# EAGLE library part ADV7202 (library adv7202)
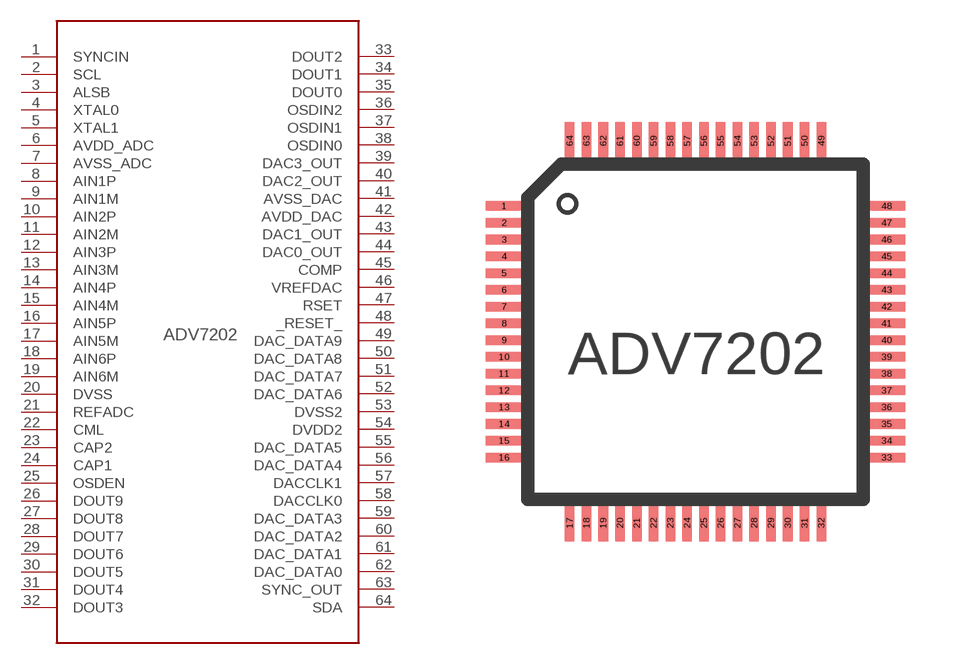
[diagram p0: symbol with the pads of LQFP64; footprint LQFP64]

Designator prefix -

## ADV7202LQFP64  [LQFP64]
1  SYNCIN
2  SCL
3  ALSB
4  XTAL0
5  XTAL1
6  AVDD_ADC
7  AVSS_ADC
8  AIN1P
9  AIN1M
10  AIN2P
11  AIN2M
12  AIN3P
13  AIN3M
14  AIN4P
15  AIN4M
16  AIN5P
17  AIN5M
18  AIN6P
19  AIN6M
20  DVSS
21  REFADC
22  CML
23  CAP2
24  CAP1
25  OSDEN
26  DOUT9
27  DOUT8
28  DOUT7
29  DOUT6
30  DOUT5
31  DOUT4
32  DOUT3
33  DOUT2
34  DOUT1
35  DOUT0
36  OSDIN2
37  OSDIN1
38  OSDIN0
39  DAC3_OUT
40  DAC2_OUT
41  AVSS_DAC
42  AVDD_DAC
43  DAC1_OUT
44  DAC0_OUT
45  COMP
46  VREFDAC
47  RSET
48  _RESET_
49  DAC_DATA9
50  DAC_DATA8
51  DAC_DATA7
52  DAC_DATA6
53  DVSS2
54  DVDD2
55  DAC_DATA5
56  DAC_DATA4
57  DACCLK1
58  DACCLK0
59  DAC_DATA3
60  DAC_DATA2
61  DAC_DATA1
62  DAC_DATA0
63  SYNC_OUT
64  SDA

## Footprint LQFP64 (pad centres in mm)
Plastic Low Profile Quad Flat Package
smd 1.1 x 0.285: 1 -5.7,3.75; 2 -5.7,3.25; 3 -5.7,2.75; 4 -5.7,2.25; 5 -5.7,1.75; 6 -5.7,1.25; 7 -5.7,0.75; 8 -5.7,0.25; 9 -5.7,-0.25; 10 -5.7,-0.75; 11 -5.7,-1.25; 12 -5.7,-1.75; 13 -5.7,-2.25; 14 -5.7,-2.75; 15 -5.7,-3.25; 16 -5.7,-3.75; 33 5.7,-3.75; 34 5.7,-3.25; 35 5.7,-2.75; 36 5.7,-2.25; 37 5.7,-1.75; 38 5.7,-1.25; 39 5.7,-0.75; 40 5.7,-0.25; 41 5.7,0.25; 42 5.7,0.75; 43 5.7,1.25; 44 5.7,1.75; 45 5.7,2.25; 46 5.7,2.75; 47 5.7,3.25; 48 5.7,3.75
smd 0.285 x 1.1: 17 -3.75,-5.7; 18 -3.25,-5.7; 19 -2.75,-5.7; 20 -2.25,-5.7; 21 -1.75,-5.7; 22 -1.25,-5.7; 23 -0.75,-5.7; 24 -0.25,-5.7; 25 0.25,-5.7; 26 0.75,-5.7; 27 1.25,-5.7; 28 1.75,-5.7; 29 2.25,-5.7; 30 2.75,-5.7; 31 3.25,-5.7; 32 3.75,-5.7; 49 3.75,5.7; 50 3.25,5.7; 51 2.75,5.7; 52 2.25,5.7; 53 1.75,5.7; 54 1.25,5.7; 55 0.75,5.7; 56 0.25,5.7; 57 -0.25,5.7; 58 -0.75,5.7; 59 -1.25,5.7; 60 -1.75,5.7; 61 -2.25,5.7; 62 -2.75,5.7; 63 -3.25,5.7; 64 -3.75,5.7